# Altium integrated library 4-1437652-6.IntLib: 1 symbol
Pins are listed as number, name and electrical type; pins without a type are passive.

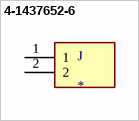
[diagram p0: symbol 4-1437652-6]

## 4-1437652-6
designator J
Conn Terminal Block 2 POS 9.53mm Solder ST Thru-Hole 25A/Contact; MF: TE Connectivity / AMP; MP: 4-1437652-6; SnapEDA_Link: https://www.snapeda.com/parts/4-1437652-6/TE%20Connectivity%20/%20AMP/view-part/2382815/?ref=snap; Availability: Unavailable; Price: None; EU_RoHS_Compliance: Compliant; Value: *; Package: None; TE_purchase_URL: https://www.te.com/usa-en/product-4-1437652-6.html?te_bu=Cor&te_type=disp&te_campaign=seda_glo_cor-seda-global-disp-prtnr-fy19-seda-model-bom-cta_sma-317_1&elqCampaignId=32493
footprint TE_4-1437652-6
pins: 1, 2